# Altium footprint library PcbLIB.PcbLib: 1 footprints
Each footprint in its own frame and in the unit in brackets; x right, y up, seen from the top. Pads: shape width x height; smd on the part's side, far side on the other; paste and mask are expansions set on the pad; w line width, h text height; cw(c..) or ccw(c..) is an arc to the next point about the centre after c.
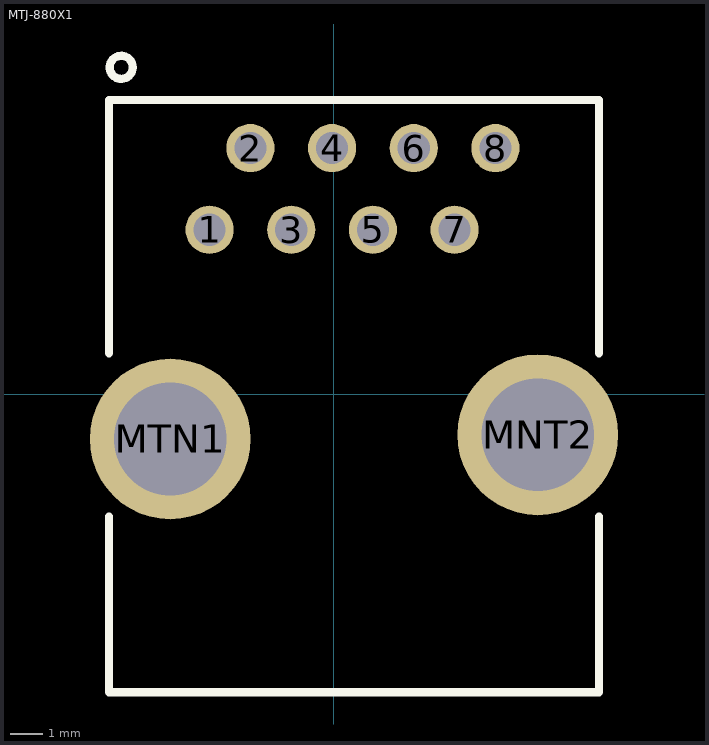
[diagram p0: the footprint, top view; thin cyan lines are the x and y axes]

## MTJ-880X1 [mm]
pads (10):
  round 1.5 hole 1: 1(-3.857,5.11) 2(-2.587,7.65) 3(-1.317,5.11) 4(-0.047,7.65) 5(1.223,5.11) 6(2.493,7.65) 7(3.763,5.11) 8(5.033,7.65)
  round 5 hole 3.5: MNT2(6.35,-1.27) MTN1(-5.08,-1.397)
Top Overlay:
  circle w0.254: c-6.604,10.16 r0.359
  lines w0.254: -6.985,-3.81 -6.985,-9.271 8.255,-9.271 8.255,-3.81 ; -6.985,1.27 -6.985,9.144 8.255,9.144 8.255,1.27
3D body "MTJ-880X1.step": height 12, standoff -3.76, extent -7.112,-9.257 8.128,9.003